# Altium schematic symbol library Alientek_Modules.SchLib: 2 symbols
Pins are listed as number, name and electrical type; pins without a type are passive.

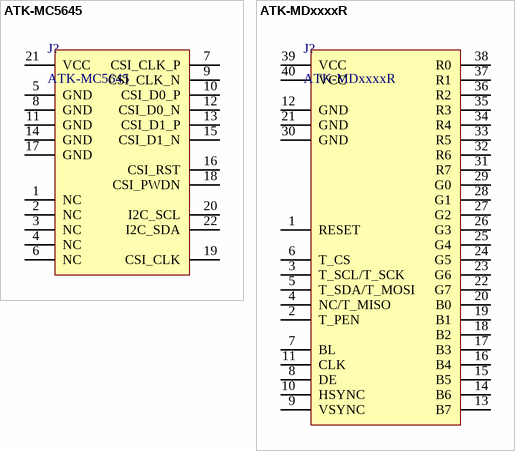
[diagram p0: symbols ATK-MC5645 to ATK-MDxxxxR]

## ATK-MC5645
designator J?
Alientek camera module, OV5645, MIPI-CSI
footprint PinSocket_2x11_P2.00mm_Vertical
pins: 1 NC, 2 NC, 3 NC, 4 NC, 5 GND, 6 NC, 7 CSI_CLK_P, 8 GND, 9 CSI_CLK_N, 10 CSI_D0_P, 11 GND, 12 CSI_D0_N, 13 CSI_D1_P, 14 GND, 15 CSI_D1_N, 16 CSI_RST, 17 GND, 18 CSI_PWDN, 19 CSI_CLK, 20 I2C_SCL, 21 VCC, 22 I2C_SDA

## ATK-MDxxxxR
designator J?
Alientek 4.3'/7'/10.1/ RGB LCD module
footprint FPC_1x40_P0.5mm_H2.0mm_Filp_SMD
pins: 1 RESET, 2 T_PEN, 3 T_SCL/T_SCK, 4 NC/T_MISO, 5 T_SDA/T_MOSI, 6 T_CS, 7 BL, 8 DE, 9 VSYNC, 10 HSYNC, 11 CLK, 12 GND, 13 B7, 14 B6, 15 B5, 16 B4, 17 B3, 18 B2, 19 B1, 20 B0, 21 GND, 22 G7, 23 G6, 24 G5, 25 G4, 26 G3, 27 G2, 28 G1, 29 G0, 30 GND, 31 R7, 32 R6, 33 R5, 34 R4, 35 R3, 36 R2, 37 R1, 38 R0, 39 VCC, 40 VCC